# Altium schematic symbol library Packages.SchLib: 10 symbols
Pins are listed as number, name and electrical type; pins without a type are passive.

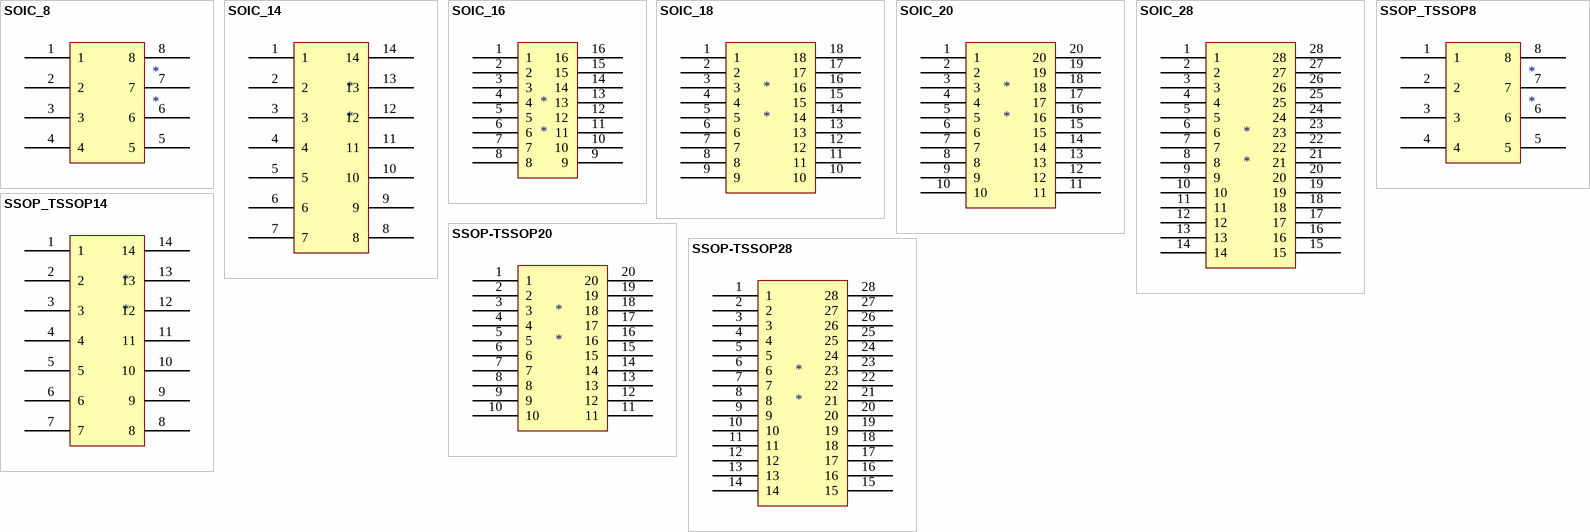
[diagram p0: symbols SOIC_8 to SSOP_TSSOP14]

## SOIC_8
designator *
footprint SOIC8
pins: 1, 2, 3, 4, 5, 6, 7, 8

## SOIC_14
designator *
footprint SOIC14
pins: 1, 2, 3, 4, 5, 6, 7, 8, 9, 10, 11, 12, 13, 14

## SOIC_16
designator *
footprint SOIC16
pins: 1, 2, 3, 4, 5, 6, 7, 8, 9, 10, 11, 12, 13, 14, 15, 16

## SOIC_18
designator *
footprint SOIC18
pins: 1, 2, 3, 4, 5, 6, 7, 8, 9, 10, 11, 12, 13, 14, 15, 16, 17, 18

## SOIC_20
designator *
footprint SOIC20
pins: 1, 2, 3, 4, 5, 6, 7, 8, 9, 10, 11, 12, 13, 14, 15, 16, 17, 18, 19, 20

## SOIC_28
designator *
footprint SOIC28
pins: 1, 2, 3, 4, 5, 6, 7, 8, 9, 10, 11, 12, 13, 14, 15, 16, 17, 18, 19, 20, 21, 22, 23, 24, 25, 26, 27, 28

## SSOP-TSSOP20
designator *
footprint SSOP-TSSOP20
pins: 1, 2, 3, 4, 5, 6, 7, 8, 9, 10, 11, 12, 13, 14, 15, 16, 17, 18, 19, 20

## SSOP-TSSOP28
designator *
footprint SSOP-TSSOP28
pins: 1, 2, 3, 4, 5, 6, 7, 8, 9, 10, 11, 12, 13, 14, 15, 16, 17, 18, 19, 20, 21, 22, 23, 24, 25, 26, 27, 28

## SSOP_TSSOP8
designator *
footprint SSOP-TSSOP8
pins: 1, 2, 3, 4, 5, 6, 7, 8

## SSOP_TSSOP14
designator *
footprint SSOP-TSSOP14
pins: 1, 2, 3, 4, 5, 6, 7, 8, 9, 10, 11, 12, 13, 14